# Altium footprint library 1043.PcbLib: 1 footprints
Each footprint in its own frame and in the unit in brackets; x right, y up, seen from the top. Pads: shape width x height; smd on the part's side, far side on the other; paste and mask are expansions set on the pad; w line width, h text height; cw(c..) or ccw(c..) is an arc to the next point about the centre after c.
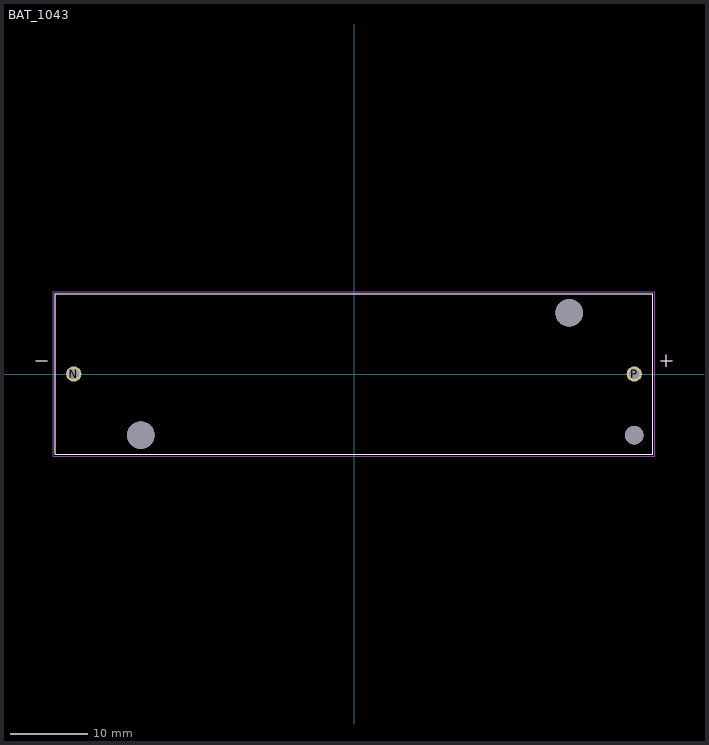
[diagram p0: the footprint, top view; thin cyan lines are the x and y axes]

## BAT_1043 [mm]
pads (5):
  round 1.98 hole 1.32: N(-36.11,0) P(36.11,0)
  round 3.55 hole 3.55 unplated: ""(-27.47,-7.87) ""(27.73,7.87)
  round 2.39 hole 2.39 unplated: ""(36.11,-7.87)
Top Overlay:
  lines w0.127: -41,1.7 -39.5,1.7 ; 39.5,1.7 41,1.7 ; 40.25,0.95 40.25,2.45 ; -38.525,-10.325 38.525,-10.325 38.525,10.325 -38.525,10.325 -38.525,-10.325
Mechanical 13:
  lines w0.127: -41,1.7 -39.5,1.7 ; 39.5,1.7 41,1.7 ; 40.25,0.95 40.25,2.45 ; -38.525,-10.325 38.525,-10.325 38.525,10.325 -38.525,10.325 -38.525,-10.325
Mechanical 15:
  lines w0.05: -38.775,-10.575 38.775,-10.575 38.775,10.575 -38.775,10.575 -38.775,-10.575
3D body "step_temp.STEP": height 14.86, standoff -3.56, extent -38.532,-10.325 38.532,10.325